# Altium schematic symbol library PV36W104C01B00.SchLib: 2 symbols
Pins are listed as number, name and electrical type; pins without a type are passive.

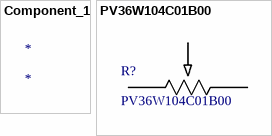
[diagram p0: symbols Component_1 to PV36W104C01B00]

## Component_1
designator *

## PV36W104C01B00
designator R?
No Description Available; Manufacturer_Name: Bourns Electronics; Type: Trimmer Potentiometers; Copyright: Copyright (C) 2025 Ultra Librarian. All rights reserved.; Manufacturer_Part_Number: PV36W104C01B00
footprint POT_PV36W_BRN
pins: 1, 2, 3